# Altium schematic symbol library Schlib1.SchLib: 1 symbol
Pins are listed as number, name and electrical type; pins without a type are passive.

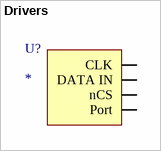
[diagram p0: symbol Drivers]

## Drivers
designator U?
pins: CLK (io), DATA IN (io), nCS (io), Port (io)